# Altium schematic symbol library CYPD3177-24LQXQ.SchLib: 1 symbol
Pins are listed as number, name and electrical type; pins without a type are passive.

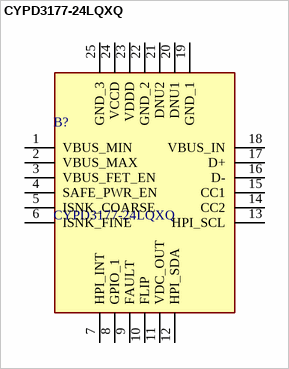
[diagram p0: symbol CYPD3177-24LQXQ]

## CYPD3177-24LQXQ
designator B?
USB Interface IC USB Type-C port controller CYPD3177; Manufacturer_Name: Infineon; Geometry.Height: 0.6mm; Mouser Part Number: 727-CYPD3177-24LQXQ; Mouser Price/Stock: https://www.mouser.co.uk/ProductDetail/Infineon-Technologies/CYPD3177-24LQXQ?qs=PzGy0jfpSMvR3aDH5AdWfA%3D%3D; Manufacturer_Part_Number: CYPD3177-24LQXQ; Datasheet Link: *
footprint QFN50P400X400X60-25N-D
pins: 1 VBUS_MIN, 2 VBUS_MAX, 3 VBUS_FET_EN, 4 SAFE_PWR_EN, 5 ISNK_COARSE, 6 ISNK_FINE, 7 HPI_INT, 8 GPIO_1, 9 FAULT, 10 FLIP, 11 VDC_OUT, 12 HPI_SDA, 13 HPI_SCL, 14 CC2, 15 CC1, 16 D-, 17 D+, 18 VBUS_IN, 19 GND_1, 20 DNU1, 21 DNU2, 22 GND_2, 23 VDDD, 24 VCCD, 25 GND_3